# Altium schematic symbol library WE-SL5 HC.SchLib: 4 symbols
Pins are listed as number, name and electrical type; pins without a type are passive.

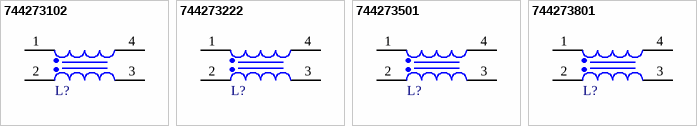
[diagram p0: symbols 744273102 to 744273801]

## 744273102
designator L?, comment 11uH  (value not drawn)
WE-SL5 HC SMT Common Mode Line Filter, 11uH, 2.5A, 0.03Ohm; Manufacturer: Wurth Elektronik; Manufacturer Part Number: 744273102; Impedance: 1000Ohm; Number of Windings: 2; Rated Voltage: 80V; Winding Style: sectional; ComponentLink1Description: Manufacturer Link; ComponentLink1URL: https://www.we-online.com/redexpert/article/744273102?ad; ComponentLink2Description: Datasheet; ComponentLink2URL: https://www.we-online.com/redexpert/spec/744273102?ad; Category: Common Mode Chokes; Match Code: WE-SL5 HC; Mount: Surface Mount; Operating Temperature Max: 125°C; Operating Temperature Min: -40°C; Packaging: Tape and Reel; Length: 9.5mm; Width: 8.3mm; Height: 5mm; DC Resistance Max: 0.03Ohm; Inductance: 11uH; Rated Current: 2.5A
footprint WE-SL5 HC_L9.5W8.3H5
pins: 1, 2, 3, 4

## 744273222
designator L?, comment 30uH  (value not drawn)
WE-SL5 HC SMT Common Mode Line Filter, 30uH, 1.4A, 0.06Ohm; Manufacturer: Wurth Elektronik; Manufacturer Part Number: 744273222; Impedance: 2200Ohm; Number of Windings: 2; Rated Voltage: 80V; Winding Style: sectional; ComponentLink1Description: Manufacturer Link; ComponentLink1URL: https://www.we-online.com/redexpert/article/744273222?ad; ComponentLink2Description: Datasheet; ComponentLink2URL: https://www.we-online.com/redexpert/spec/744273222?ad; Category: Common Mode Chokes; Match Code: WE-SL5 HC; Mount: Surface Mount; Operating Temperature Max: 125°C; Operating Temperature Min: -40°C; Packaging: Tape and Reel; Length: 9.5mm; Width: 8.3mm; Height: 5mm; DC Resistance Max: 0.06Ohm; Inductance: 30uH; Rated Current: 1.4A
footprint WE-SL5 HC_L9.5W8.3H5
pins: 1, 2, 3, 4

## 744273501
designator L?, comment 5uH  (value not drawn)
WE-SL5 HC SMT Common Mode Line Filter, 5uH, 5A, 0.0055Ohm; Manufacturer: Wurth Elektronik; Manufacturer Part Number: 744273501; Impedance: 500Ohm; Number of Windings: 2; Rated Voltage: 80V; Winding Style: sectional; ComponentLink1Description: Manufacturer Link; ComponentLink1URL: https://www.we-online.com/redexpert/article/744273501?ad; ComponentLink2Description: Datasheet; ComponentLink2URL: https://www.we-online.com/redexpert/spec/744273501?ad; Category: Common Mode Chokes; Match Code: WE-SL5 HC; Mount: Surface Mount; Operating Temperature Max: 125°C; Operating Temperature Min: -40°C; Packaging: Tape and Reel; Length: 9.5mm; Width: 8.3mm; Height: 5mm; DC Resistance Max: 0.0055Ohm; Inductance: 5uH; Rated Current: 5A
footprint WE-SL5 HC_L9.5W8.3H5
pins: 1, 2, 3, 4

## 744273801
designator L?, comment 9uH  (value not drawn)
WE-SL5 HC SMT Common Mode Line Filter, 9uH, 3.5A, 0.011Ohm; Manufacturer: Wurth Elektronik; Manufacturer Part Number: 744273801; Impedance: 800Ohm; Number of Windings: 2; Rated Voltage: 80V; Winding Style: sectional; ComponentLink1Description: Manufacturer Link; ComponentLink1URL: https://www.we-online.com/redexpert/article/744273801?ad; ComponentLink2Description: Datasheet; ComponentLink2URL: https://www.we-online.com/redexpert/spec/744273801?ad; Category: Common Mode Chokes; Match Code: WE-SL5 HC; Mount: Surface Mount; Operating Temperature Max: 125°C; Operating Temperature Min: -40°C; Packaging: Tape and Reel; Length: 9.5mm; Width: 8.3mm; Height: 5mm; DC Resistance Max: 0.011Ohm; Inductance: 9uH; Rated Current: 3.5A
footprint WE-SL5 HC_L9.5W8.3H5
pins: 1, 2, 3, 4